# Altium footprint library 15EDGVC-3.5-02.PcbLib: 1 footprints
Each footprint in its own frame and in the unit in brackets; x right, y up, seen from the top. Pads: shape width x height; smd on the part's side, far side on the other; paste and mask are expansions set on the pad; w line width, h text height; cw(c..) or ccw(c..) is an arc to the next point about the centre after c.
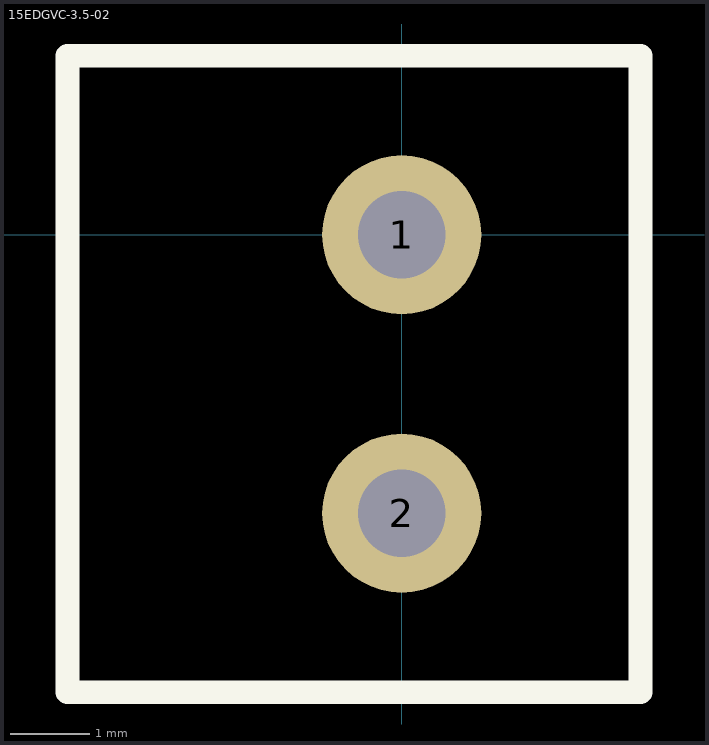
[diagram p0: the footprint, top view; thin cyan lines are the x and y axes]

## 15EDGVC-3.5-02 [mm]
pads (2):
  round 2 hole 1.1: 1(0,0) 2(0,-3.5)
Top Overlay:
  lines w0.3: -4.2,-5.75 -4.2,2.25 3,2.25 3,-5.75 -4.2,-5.75
TopAssy:
  lines w0.2: -4.2,-5.75 3,-5.75 3,2.25 -4.2,2.25 -4.2,-5.75
3D body "15EDGVC-3.5-02P-14-00AH.STEP": height 9.3, standoff -3.5, extent -4.2,-5.6 3,2.2